# Altium footprint library Rich Footprints.PcbLib: 155 footprints (part 9 of 10)
Each footprint in its own frame and in the unit in brackets; x right, y up, seen from the top. Pads: shape width x height; smd on the part's side, far side on the other; paste and mask are expansions set on the pad; w line width, h text height; cw(c..) or ccw(c..) is an arc to the next point about the centre after c.
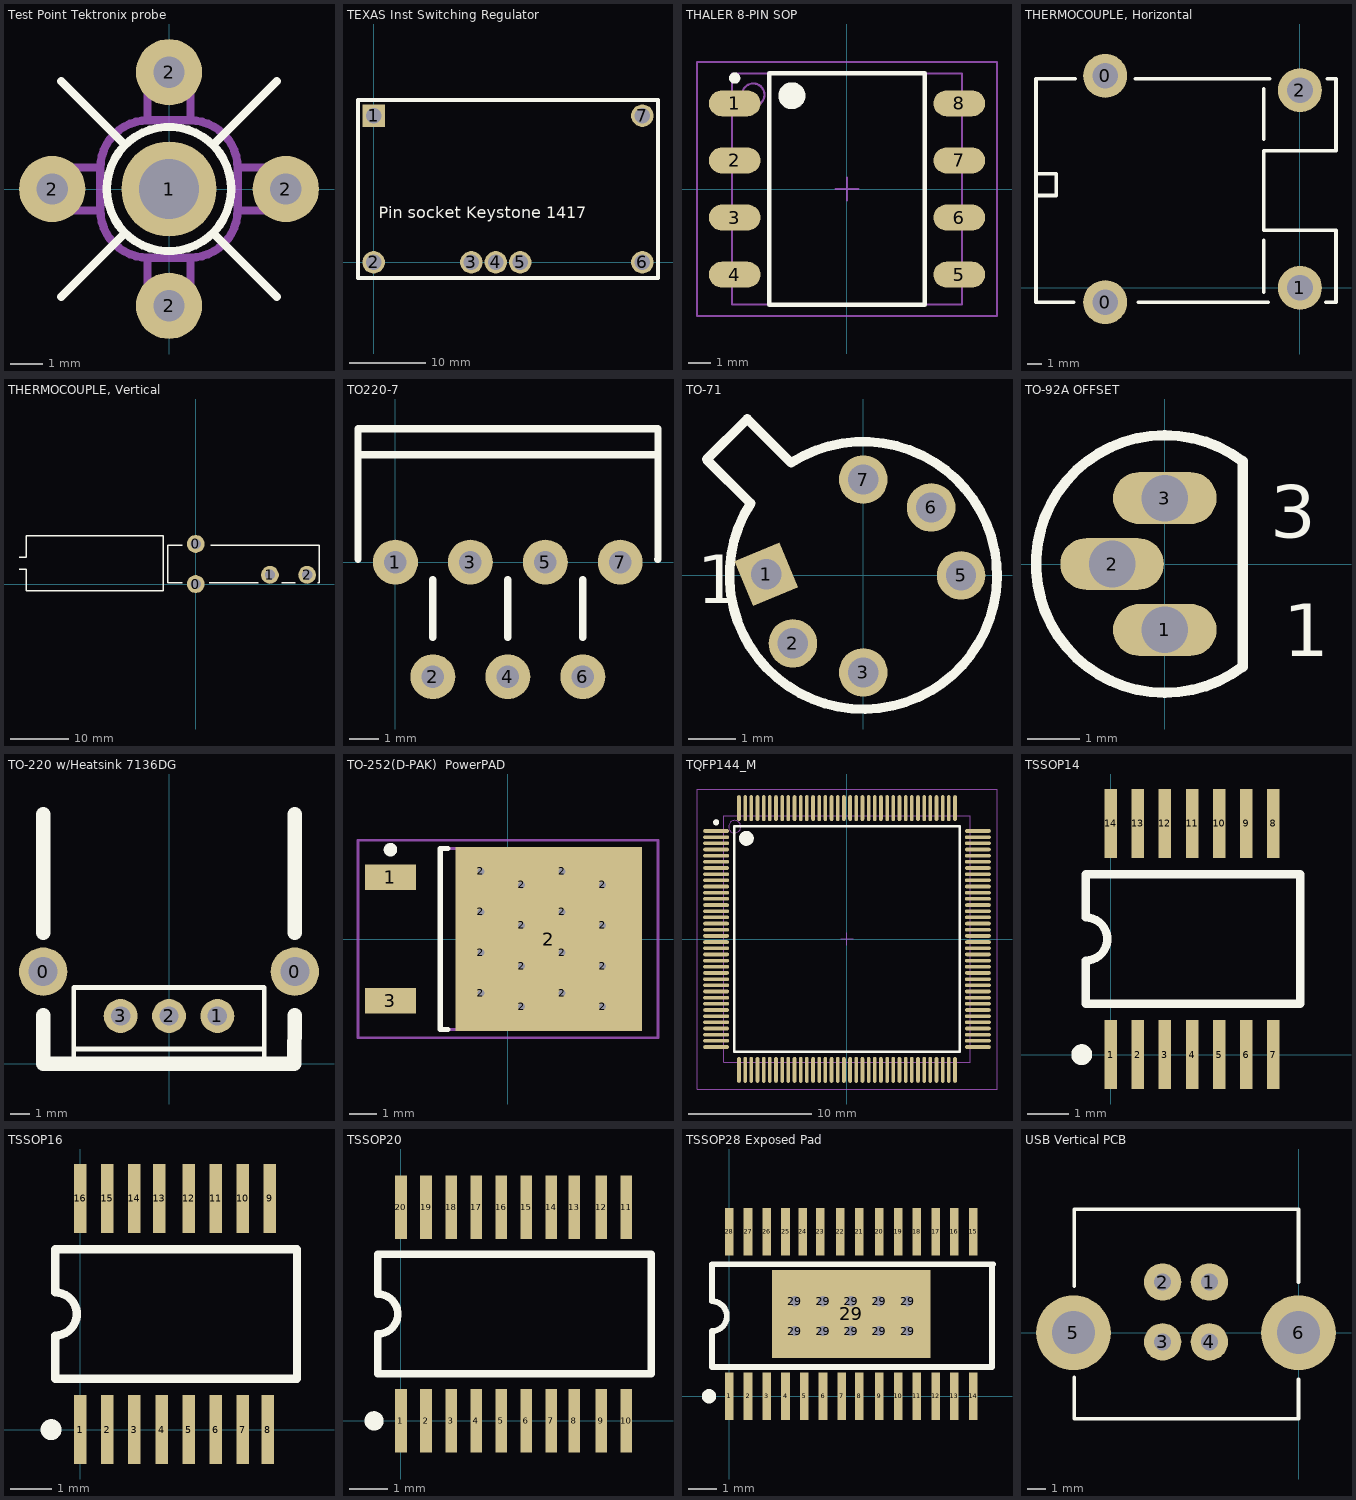
[diagram p8: the footprints below, top view; thin cyan lines are the x and y axes]

## Test Point Tektronix probe [mil]
pads (5):
  round 115 hole 73: 1(0,0)
  round 80 hole 38: 2(-141,0) 2(0,-141) 2(0,141) 2(141,0)
Top Overlay:
  circle w10: c0,0 r75
  lines w10: -130,-130 -53,-53 ; -130,130 -53,53 ; 53,-53 130,-130 ; 53,53 130,130
Mechanical 3:
  circle w10: c0,0 r38
  lines w10: -83,-24.96 ccw(c-24.96,-24.96) -66,-66 ccw(c-24.96,-24.96) -24.96,-83 ; -83,24.96 cw(c-24.96,24.96) -66,66 cw(c-24.96,24.96) -24.96,83 ; 24.96,-83 ccw(c24.96,-24.96) 66,-66 ccw(c24.96,-24.96) 83,-24.96 ; 24.96,83 cw(c24.96,24.96) 66,66 cw(c24.96,24.96) 83,24.96 ; -141,-26 -83,-26 -83,26 -141,26 -141,-26 ; -26,-141 26,-141 26,-83 -26,-83 -26,-141 ; -26,83 26,83 26,141 -26,141 -26,83 ; 83,-26 83,26 141,26 141,-26 83,-26

## TEXAS Inst Switching Regulator [mil] "Texas Instruments Integrated switching regulator"
height 450
pads (7):
  rect 115x115 hole 78: 1(0,750)
  round 115 hole 78: 2(0,0) 3(500,0) 4(625,0) 5(750,0) 6(1375,0) 7(1375,750)
Top Overlay:
  lines w20: -80,-80 -80,830 1455,830 1455,-80 -80,-80
  text "Pin socket Keystone 1417" at 25,225 h60

## THALER 8-PIN SOP [mm] "SOJ, 8-Leads, Body 10.3x11.1mm (max), Pitch 2.54mm, IPC Low Density"
height 3.58
pads (8):
  oval 2.3x1.15 smd: 1(-5,3.81) 2(-5,1.27) 3(-5,-1.27) 4(-5,-3.81) 5(5,-3.81) 6(5,-1.27) 7(5,1.27) 8(5,3.81)
Top Overlay:
  circle w0.6: c-2.45,4.15 r0.3
  circle w0.25: c-5,4.935 r0.125
  lines w0.2: -3.45,-5.15 3.45,-5.15 3.45,5.15 -3.45,5.15 -3.45,-5.15
Mechanical 13:
  circle w0.1: c-4.17,4.195 r0.5
  lines w0.1: -5.12,-5.145 5.12,-5.145 5.12,5.145 -5.12,5.145 -5.12,-5.145
Mechanical 15:
  lines w0.1: -0.5,0 0.5,0 ; 0,-0.5 0,0.5 ; -6.675,-5.65 6.675,-5.65 6.675,5.65 -6.675,5.65 -6.675,-5.65
3D body: height 3.58, standoff 0.4, extent -5.12,-5.145 5.12,5.145

## THERMOCOUPLE, Horizontal [mil] "Omega, PCB mount, horizontal"
pads (4):
  round 120 hole 70: 0(-531.5,-39.37) 0(-531.5,578.74) 1(0,0) 2(0,539.37)
Top Overlay:
  lines w10: -720.47,251.97 -665.35,251.97 -665.35,311.02 -720.47,311.02 ; -618.11,-39.37 -720.47,-39.37 -720.47,570.87 -614.17,570.87 ; -448.82,570.87 -82.68,570.87 ; -440.94,-39.37 -86.61,-39.37 ; -98.43,-11.81 -98.43,129.92 ; -98.43,405.51 -98.43,543.31 ; 70.87,-39.37 98.43,-39.37 98.43,157.48 -98.43,157.48 -98.43,374.02 98.43,374.02 98.43,570.87 74.8,570.87

## THERMOCOUPLE, Vertical [mil] "Omega, PCB mount, vertical"
pads (4):
  round 120 hole 70: 0(0,0) 0(0,270) 1(500,62) 2(750,62)
Top Overlay:
  lines w9.84: -1190,100 -1140,100 -1140,-45 -220,-45 -220,325 -1140,325 -1140,180 -1190,180 ; -90,10 -190,10 -190,260 -90,260 ; 90,10 420,10 ; 100,260 830,260 830,62 830,10 820,10 ; 580,10 670,10

## TO220-7 [mil]
pads (7):
  round 60 hole 30: 1(0,0) 2(50,-153) 3(100,0) 4(150,-153) 5(200,0) 6(250,-153) 7(300,0)
Top Overlay:
  lines w10: -50,3.54 -50,175.2 -47.24,177.95 ; -50,143.54 350.39,143.54 ; -50,177.95 350.39,177.95 350.39,3.94 350,3.54 ; 50,-100 50,-23.62 ; 150,-100 150,-23.62 ; 250,-100 250,-23.62

## TO-71 [mil] "Can; 7 Leads (1 Absent); Pin Circle Dia. 2.54 mm; Lead Dia. 0.48 mm (max)"
height 210.24
pads (6):
  rect 40x40 hole 25 rot 22.5: 1(-80,1)
  round 40 hole 25: 2(-58,-56) 3(0,-80) 5(80.62,0) 6(56,56) 7(0,79)
Top Overlay:
  lines w7.87: -129.03,95.62 -95.62,129.03 -59.44,92.84 cw(c0,0) -92.84,59.43 -129.03,95.62
  text "1" at -137,-23 h40

## TO-92A OFFSET [mm] "TO, Flat Index; 3 In-Line, Axial Leads; Body Dia. 4.5mm; Leads 0.51 x 0.48 mm (max)"
height 6.86
pads (3):
  oval 2x1 hole 0.9 mask+0.051: 1(0,-1.27) 2(-1.016,0) 3(0,1.27)
Top Overlay:
  lines w0.2: 1.5,-1.98 cw(c0,0) 1.5,1.98 1.5,-1.98
  text "3" at 2.032,0.508 h1.02
  text "1" at 2.286,-1.778 h1.02

## TO-220 w/Heatsink 7136DG [mil]
pads (5):
  round 100 hole 60: 0(-260,190) 0(260,190)
  round 70 hole 40: 1(100,98.43) 2(0,98.43) 3(-100,98.43)
Top Overlay:
  lines w10: 196.85,0 196.85,157.48 -196.85,157.48 -196.85,0 -196.85,30 196.85,30
  lines w30: -260,100 -260,0 0,0 258.86,0 260,100 ; -260,270 -260,515 ; 260,270 260,515

## TO-252(D-PAK)  PowerPAD [mil] "D-PAK, 3-Pads, Body 6.2x6.7mm (max), IPC Medium Density"
height 93.7
pads (19):
  rect 74.8x37.4 smd: 1(-171.26,89.76) 3(-171.26,-89.76)
  round 20 hole 10: 2(-39.37,-78.74) 2(-39.37,-19.68) 2(-39.37,39.37) 2(-39.37,98.43) 2(19.68,-98.43) 2(19.68,-39.37) 2(19.68,19.68) 2(19.68,78.74) 2(78.74,-78.74) 2(78.74,-19.68) 2(78.74,39.37) 2(78.74,98.43) 2(137.8,-98.43) 2(137.8,-39.37) 2(137.8,19.68) 2(137.8,78.74)
  rect 271.65x267.72 smd: 2(59.06,0)
Top Overlay:
  circle w9.84: c-171.26,130.12 r4.92
  lines w7.87: -88,-131.89 -98.43,-131.89 -98.43,131.89 -88,131.89
Mechanical 13:
  lines w3.94: -98.43,-131.89 -98.43,131.89 145.67,131.89 145.67,-131.89 -98.43,-131.89
Mechanical 15:
  lines w3.94: -19.68,0 19.69,0 ; 0,-19.68 0,19.69 ; -218.5,-143.7 -218.5,143.7 218.5,143.7 218.5,-143.7 -218.5,-143.7
3D body: height 93.7, standoff 0, extent -98.43,-131.89 145.67,131.89

## TQFP144_M [mm] "144-Pin Thin Quad Flat Pack (TQG144) - Pb-Free, IPC Low Density"
height 1.6
pads (144):
  oval 2.1x0.3 smd: 1(-10.6,8.75) 2(-10.6,8.25) 3(-10.6,7.75) 4(-10.6,7.25) 5(-10.6,6.75) 6(-10.6,6.25) 7(-10.6,5.75) 8(-10.6,5.25) 9(-10.6,4.75) 10(-10.6,4.25) 11(-10.6,3.75) 12(-10.6,3.25) 13(-10.6,2.75) 14(-10.6,2.25) 15(-10.6,1.75) 16(-10.6,1.25) 17(-10.6,0.75) 18(-10.6,0.25) 19(-10.6,-0.25) 20(-10.6,-0.75) 21(-10.6,-1.25) 22(-10.6,-1.75) 23(-10.6,-2.25) 24(-10.6,-2.75) 25(-10.6,-3.25) 26(-10.6,-3.75) 27(-10.6,-4.25) 28(-10.6,-4.75) 29(-10.6,-5.25) 30(-10.6,-5.75) 31(-10.6,-6.25) 32(-10.6,-6.75) 33(-10.6,-7.25) 34(-10.6,-7.75) 35(-10.6,-8.25) 36(-10.6,-8.75) 73(10.6,-8.75) 74(10.6,-8.25) 75(10.6,-7.75) 76(10.6,-7.25) 77(10.6,-6.75) 78(10.6,-6.25) 79(10.6,-5.75) 80(10.6,-5.25) 81(10.6,-4.75) 82(10.6,-4.25) 83(10.6,-3.75) 84(10.6,-3.25) 85(10.6,-2.75) 86(10.6,-2.25) 87(10.6,-1.75) 88(10.6,-1.25) 89(10.6,-0.75) 90(10.6,-0.25) 91(10.6,0.25) 92(10.6,0.75) 93(10.6,1.25) 94(10.6,1.75) 95(10.6,2.25) 96(10.6,2.75) 97(10.6,3.25) 98(10.6,3.75) 99(10.6,4.25) 100(10.6,4.75) 101(10.6,5.25) 102(10.6,5.75) 103(10.6,6.25) 104(10.6,6.75) 105(10.6,7.25) 106(10.6,7.75) 107(10.6,8.25) 108(10.6,8.75)
  oval 0.3x2.1 smd: 37(-8.75,-10.6) 38(-8.25,-10.6) 39(-7.75,-10.6) 40(-7.25,-10.6) 41(-6.75,-10.6) 42(-6.25,-10.6) 43(-5.75,-10.6) 44(-5.25,-10.6) 45(-4.75,-10.6) 46(-4.25,-10.6) 47(-3.75,-10.6) 48(-3.25,-10.6) 49(-2.75,-10.6) 50(-2.25,-10.6) 51(-1.75,-10.6) 52(-1.25,-10.6) 53(-0.75,-10.6) 54(-0.25,-10.6) 55(0.25,-10.6) 56(0.75,-10.6) 57(1.25,-10.6) 58(1.75,-10.6) 59(2.25,-10.6) 60(2.75,-10.6) 61(3.25,-10.6) 62(3.75,-10.6) 63(4.25,-10.6) 64(4.75,-10.6) 65(5.25,-10.6) 66(5.75,-10.6) 67(6.25,-10.6) 68(6.75,-10.6) 69(7.25,-10.6) 70(7.75,-10.6) 71(8.25,-10.6) 72(8.75,-10.6) 109(8.75,10.6) 110(8.25,10.6) 111(7.75,10.6) 112(7.25,10.6) 113(6.75,10.6) 114(6.25,10.6) 115(5.75,10.6) 116(5.25,10.6) 117(4.75,10.6) 118(4.25,10.6) 119(3.75,10.6) 120(3.25,10.6) 121(2.75,10.6) 122(2.25,10.6) 123(1.75,10.6) 124(1.25,10.6) 125(0.75,10.6) 126(0.25,10.6) 127(-0.25,10.6) 128(-0.75,10.6) 129(-1.25,10.6) 130(-1.75,10.6) 131(-2.25,10.6) 132(-2.75,10.6) 133(-3.25,10.6) 134(-3.75,10.6) 135(-4.25,10.6) 136(-4.75,10.6) 137(-5.25,10.6) 138(-5.75,10.6) 139(-6.25,10.6) 140(-6.75,10.6) 141(-7.25,10.6) 142(-7.75,10.6) 143(-8.25,10.6) 144(-8.75,10.6)
Top Overlay:
  circle w0.6: c-8.15,8.15 r0.3
  circle w0.25: c-10.6,9.45 r0.125
  lines w0.2: -9.15,-9.15 9.15,-9.15 9.15,9.15 -9.15,9.15 -9.15,-9.15
Mechanical 13:
  circle w0.1: c-9.1,9.1 r0.5
  lines w0.1: -10,-10 10,-10 10,10 -10,10 -10,-10
Mechanical 15:
  lines w0.1: -0.5,0 0.5,0 ; 0,-0.5 0,0.5 ; -12.15,-12.15 12.15,-12.15 12.15,12.15 -12.15,12.15 -12.15,-12.15
3D body: height 1.6, standoff 0, extent -10,-10 10,10

## TSSOP14 [mm] "Shrink Small Outline; 14 Leads; Body Width 4.4 mm; Pitch 0.65 mm"
height 1.1
pads (14):
  rect 0.3x1.65 smd: 1(0,0) 2(0.65,0) 3(1.3,0) 4(1.95,0) 5(2.6,0) 6(3.25,0) 7(3.9,0) 8(3.9,5.55) 9(3.25,5.55) 10(2.6,5.55) 11(1.95,5.55) 12(1.3,5.55) 13(0.65,5.55) 14(0,5.55)
Top Overlay:
  circle w0.25: c-0.7,0 r0.125
  lines w0.2: -0.6,1.225 -0.6,2.258 ccw(c-0.6,2.775) -0.6,3.292 -0.6,4.325 ; -0.55,1.225 4.55,1.225 4.55,4.325 -0.55,4.325

## TSSOP16 [mm] "Shrink Small Outline; 16 Leads; Body Width 4.4 mm; Pitch 0.65 mm"
height 1.1
pads (16):
  rect 0.3x1.65 smd: 1(0,0) 2(0.65,0) 3(1.3,0) 4(1.95,0) 5(2.6,0) 6(3.25,0) 7(3.9,0) 8(4.5,0) 9(4.55,5.55) 10(3.9,5.55) 11(3.25,5.55) 12(2.6,5.55) 13(1.9,5.55) 14(1.3,5.55) 15(0.65,5.55) 16(0,5.55)
Top Overlay:
  circle w0.25: c-0.7,0 r0.125
  lines w0.2: -0.6,1.225 5.2,1.225 5.2,4.325 -0.6,4.325 -0.6,3.292 cw(c-0.6,2.775) -0.6,2.258 -0.6,1.225

## TSSOP20 [mm] "Shrink Small Outline; 20 Leads; Body Width 4.4 mm; Pitch 0.65 mm"
height 1.1
pads (20):
  rect 0.3x1.65 smd: 1(0,0) 2(0.65,0) 3(1.3,0) 4(1.95,0) 5(2.6,0) 6(3.25,0) 7(3.9,0) 8(4.5,0) 9(5.2,0) 10(5.85,0) 11(5.85,5.55) 12(5.2,5.55) 13(4.5,5.55) 14(3.9,5.55) 15(3.25,5.55) 16(2.6,5.55) 17(1.95,5.55) 18(1.3,5.55) 19(0.65,5.55) 20(0,5.55)
Top Overlay:
  circle w0.25: c-0.7,0 r0.125
  lines w0.2: -0.6,1.225 -0.6,2.258 ccw(c-0.6,2.775) -0.6,3.292 -0.6,4.325 6.5,4.325 6.5,1.225 -0.6,1.225

## TSSOP28 Exposed Pad [mm] "Shrink Small Outline; 28 Leads; Body Width 4.4 mm; Pitch 0.65 mm"
height 1.1
pads (39):
  rect 0.3x1.65 smd: 1(0,0) 2(0.65,0) 3(1.3,0) 4(1.95,0) 5(2.6,0) 6(3.25,0) 7(3.9,0) 8(4.5,0) 9(5.2,0) 10(5.85,0) 11(6.5,0) 12(7.15,0) 13(7.8,0) 14(8.45,0) 15(8.45,5.7) 16(7.8,5.7) 17(7.15,5.7) 18(6.5,5.7) 19(5.85,5.7) 20(5.2,5.7) 21(4.5,5.7) 22(3.85,5.7) 23(3.15,5.7) 24(2.55,5.7) 25(1.95,5.7) 26(1.3,5.7) 27(0.65,5.7) 28(0,5.7)
  round 0.61 hole 0.356: 29(2.275,2.258) 29(2.275,3.292) 29(3.25,2.258) 29(3.25,3.292) 29(4.225,2.258) 29(4.225,3.292) 29(5.2,2.258) 29(5.2,3.292) 29(6.175,2.258) 29(6.175,3.292)
  rect 5.5x3.05 smd: 29(4.225,2.85)
Top Overlay:
  circle w0.25: c-0.7,0 r0.125
  lines w0.2: -0.6,4.572 -0.6,3.292 cw(c-0.6,2.775) -0.6,2.258 -0.6,1.016 9.1,1.016 9.1,4.572 ; -0.556,4.572 9.144,4.572

## USB Vertical PCB [mm] "EDAC USB typeB p/n 690-004-260-023"
height 15.55
pads (6):
  round 2 hole 0.92: 1(-4.77,2.71) 2(-7.27,2.71) 3(-7.27,-0.49) 4(-4.77,-0.49)
  round 4 hole 2.3: 5(-12.04,0) 6(0,0)
Top Overlay:
  lines w0.2: -12,-2.4 -12,-4.6 0,-4.6 0,-2.5 ; -12,2.5 -12,6.6 0,6.6 0,2.7